# Altium footprint library VOM.PcbLib: 19 footprints (part 2 of 2)
Each footprint in its own frame and in the unit in brackets; x right, y up, seen from the top. Pads: shape width x height; smd on the part's side, far side on the other; paste and mask are expansions set on the pad; w line width, h text height; cw(c..) or ccw(c..) is an arc to the next point about the centre after c.
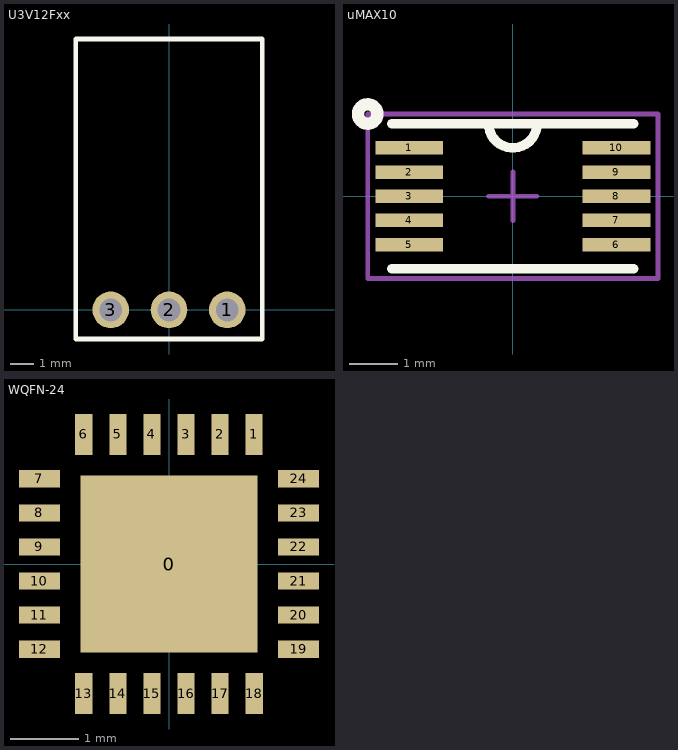
[diagram p1: the footprints below, top view; thin cyan lines are the x and y axes]

## U3V12Fxx [mm]
pads (3):
  round 1.6 hole 1: 1(2.54,0) 2(0,0) 3(-2.54,0)
Top Overlay:
  lines w0.203: -4.064,-1.27 -4.064,11.811 4.064,11.811 4.064,-1.27 -4.064,-1.27
3D body: height 2.54, standoff 0, extent -4.064,-1.27 4.064,11.811

## uMAX10 [mm]
pads (10):
  rect 1.4x0.28 smd: 1(-2.14,1) 2(-2.14,0.5) 3(-2.14,0) 4(-2.14,-0.5) 5(-2.14,-1) 6(2.14,-1) 7(2.14,-0.5) 8(2.14,0) 9(2.14,0.5) 10(2.14,1)
Top Overlay:
  circle w0.254: c-3,1.7 r0.2
  lines w0.2: -2.5,-1.5 2.5,-1.5 ; -2.5,1.5 2.5,1.5 ; -0.5,1.5 ccw(c0,1.5) 0.5,1.5
Mechanical 15:
  lines w0.1: -0.5,0 0.5,0 ; 0,-0.5 0,0.5 ; -3,-1.7 3,-1.7 3,1.5 3,1.7 -3,1.7 -3,-1.7
3D body: height 0.95, standoff 0, extent -2.5,-1.5 2.5,1.5

## WQFN-24 [mm]
pads (25):
  rect 2.6x2.6 smd paste-2.6: 0(0,0)
  rect 0.25x0.6 smd: 1(1.25,1.9) 2(0.75,1.9) 3(0.25,1.9) 4(-0.25,1.9) 5(-0.75,1.9) 6(-1.25,1.9) 13(-1.25,-1.9) 14(-0.75,-1.9) 15(-0.25,-1.9) 16(0.25,-1.9) 17(0.75,-1.9) 18(1.25,-1.9)
  rect 0.6x0.25 smd: 7(-1.9,1.25) 8(-1.9,0.75) 9(-1.9,0.25) 10(-1.9,-0.25) 11(-1.9,-0.75) 12(-1.9,-1.25) 19(1.9,-1.25) 20(1.9,-0.75) 21(1.9,-0.25) 22(1.9,0.25) 23(1.9,0.75) 24(1.9,1.25)
3D body: height 0.8, standoff 0, extent -2.01,-2.01 2.01,2.01